# Altium schematic symbol library SnapEDAsch.SchLib: 1 symbol
Pins are listed as number, name and electrical type; pins without a type are passive.

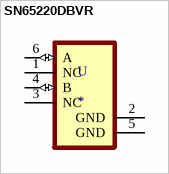
[diagram p0: symbol SN65220DBVR]

## SN65220DBVR
designator U
IC SINGLE USB PORT TVS SOT-23-6; MP: SN65220DBVR; MF: Texas Instruments; Price: None; Value: *; Package: SOT-23-6 Texas Instruments; SnapEDA_Link: https://www.snapeda.com/parts/SN65220DBVR/Texas%20Instruments/view-part/214591/?ref=snap; Availability: Unavailable
footprint SOT95P280X145-6N
pins: 1 NC, 2 GND (power), 3 NC, 4 B (io), 5 GND (power), 6 A (io)